# Altium footprint library WL-SMCW.PcbLib: 10 footprints
Each footprint in its own frame and in the unit in brackets; x right, y up, seen from the top. Pads: shape width x height; smd on the part's side, far side on the other; paste and mask are expansions set on the pad; w line width, h text height; cw(c..) or ccw(c..) is an arc to the next point about the centre after c.
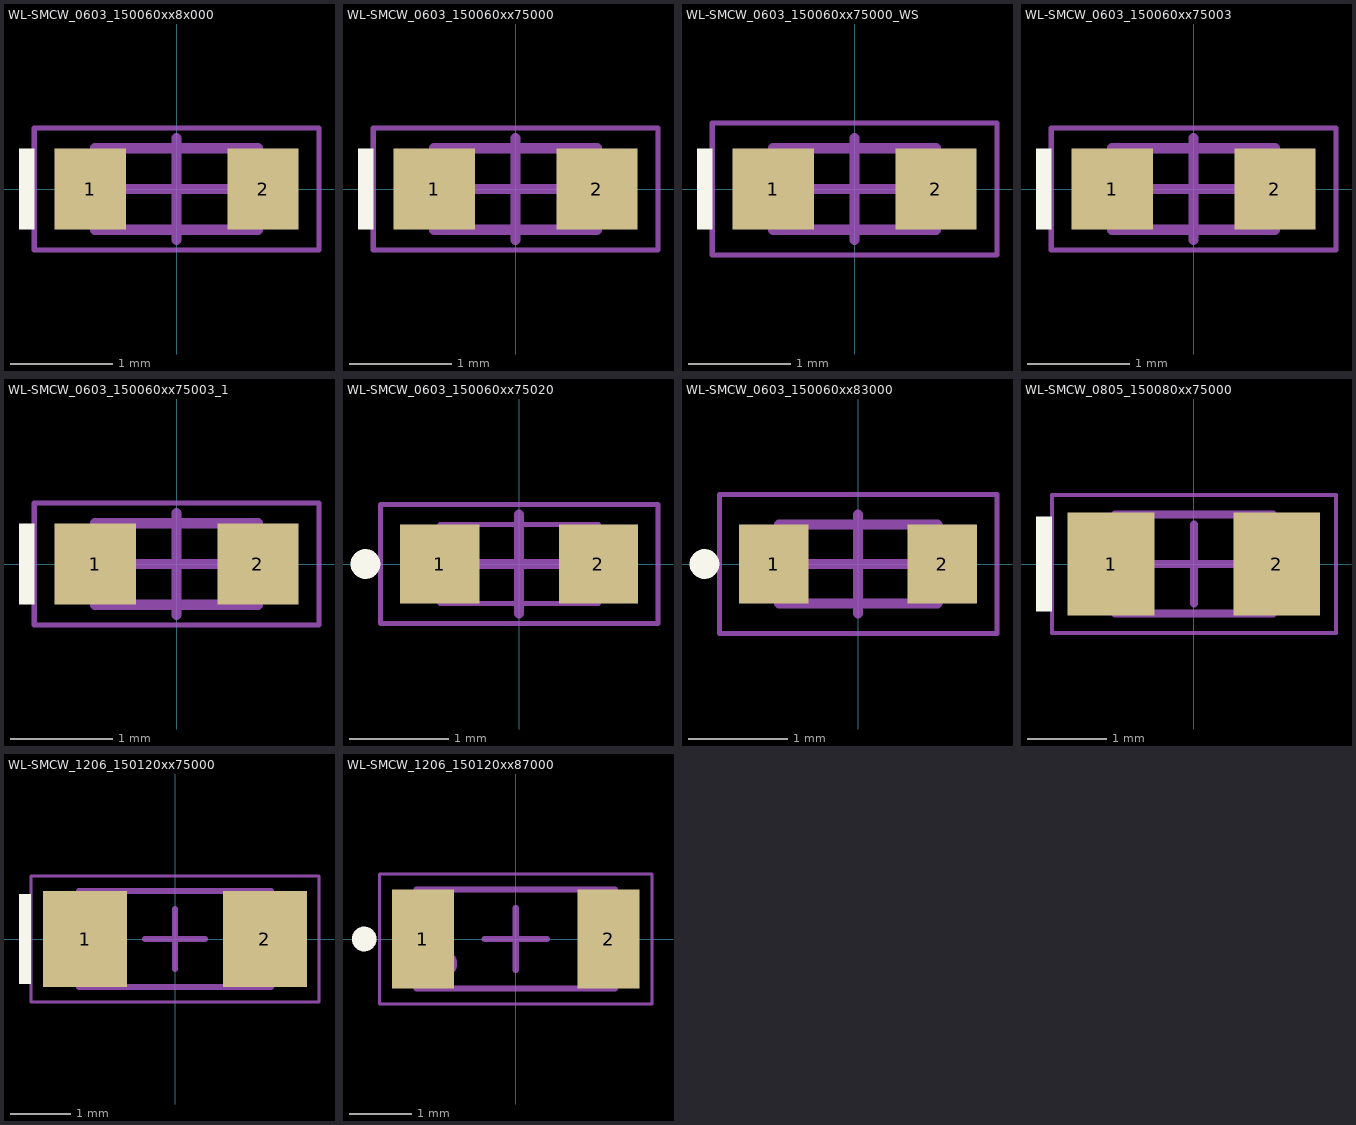
[diagram p0: the footprints below, top view; thin cyan lines are the x and y axes]

## WL-SMCW_0603_150060xx8x000 [mm] "SMD Mono-color Chip LED, body 1.6x0.8mm"
height 0.95
pads (2):
  rect 0.7x0.8 smd: 1(-0.85,0) 2(0.85,0)
Top Overlay:
  rectangle: -1.55,-0.4 -1.4,0.4
Top Assembly:
  rectangle: -0.8,-0.4 -0.5,0.4
  lines w0.1: -0.8,-0.4 0.8,-0.4 0.8,0.4 -0.8,0.4 -0.8,-0.4
Top Designator:
  text ".Designator" at -3.647,-0.357 h1
Top Courtyard:
  lines w0.05: -1.4,-0.6 1.4,-0.6 1.4,0.6 -1.4,0.6 -1.4,-0.6
Top Component Center:
  lines w0.1: -0.5,0 0.5,0 ; 0,-0.5 0,0.5
3D body "150060xx86000.stp": height 0.95, standoff 0, extent -0.8,-0.4 0.8,0.4

## WL-SMCW_0603_150060xx75000 [mm] "SMD Mono-color Chip LED, body 1.60 x 0.80 mm"
height 0.7
pads (2):
  rect 0.8x0.8 smd: 1(-0.8,0) 2(0.8,0)
Top Overlay:
  rectangle: -1.55,-0.4 -1.4,0.4
Top Assembly:
  rectangle: -0.8,-0.4 -0.5,0.4
  lines w0.1: -0.8,-0.4 0.8,-0.4 0.8,0.4 -0.8,0.4 -0.8,-0.4
Top Designator:
  text ".Designator" at -3.647,-0.357 h1
Top Courtyard:
  lines w0.05: -1.4,-0.6 1.4,-0.6 1.4,0.6 -1.4,0.6 -1.4,-0.6
Top Component Center:
  lines w0.1: -0.5,0 0.5,0 ; 0,-0.5 0,0.5
3D body "150060xxx.stp": height 0.7, standoff 0, extent -0.8,-0.4 0.8,0.4

## WL-SMCW_0603_150060xx75000_WS [mm] "SMD Mono-color Chip LED, body 1.60 x 0.80 mm"
height 0.45
pads (2):
  rect 0.8x0.8 smd: 1(-0.8,0) 2(0.8,0)
Top Overlay:
  rectangle: -1.55,-0.4 -1.4,0.4
Top Assembly:
  rectangle: -0.8,-0.4 -0.5,0.4
  lines w0.1: -0.8,-0.4 -0.8,0.4 0.8,0.4 0.8,-0.4 -0.8,-0.4
Top Designator:
  text ".Designator" at -3.647,-0.357 h1
Top Courtyard:
  lines w0.05: -1.4,-0.65 -1.4,0.65 1.4,0.65 1.4,-0.65 -1.4,-0.65
Top Component Center:
  lines w0.1: -0.5,0 0.5,0 ; 0,-0.5 0,0.5
3D body "150060WS75000.stp": height 0.45, standoff 0, extent -0.8,-0.4 0.8,0.4

## WL-SMCW_0603_150060xx75003 [mm] "SMD Mono-color Chip LED, body 1.6x0.8mm"
height 0.7
pads (2):
  rect 0.8x0.8 smd: 1(-0.8,0) 2(0.8,0)
Top Overlay:
  rectangle: -1.55,-0.4 -1.4,0.4
Top Assembly:
  rectangle: -0.8,-0.4 -0.5,0.4
  lines w0.1: -0.8,-0.4 -0.8,0.4 0.8,0.4 0.8,-0.4 -0.8,-0.4
Top Designator:
  text ".Designator" at -3.647,-0.357 h1
Top Courtyard:
  lines w0.05: -1.4,-0.6 -1.4,0.6 1.4,0.6 1.4,-0.6 -1.4,-0.6
Top Component Center:
  lines w0.1: -0.5,0 0.5,0 ; 0,-0.5 0,0.5
3D body "150060xxx.stp": height 0.7, standoff 0, extent -0.8,-0.4 0.8,0.4

## WL-SMCW_0603_150060xx75003_1 [mm] "SMD Mono-color Chip LED, body 1.6x0.8mm"
height 0.7
pads (2):
  rect 0.8x0.8 smd: 1(-0.8,0) 2(0.8,0)
Top Overlay:
  rectangle: -1.55,-0.4 -1.4,0.4
Top Assembly:
  rectangle: -0.8,-0.4 -0.5,0.4
  lines w0.1: -0.8,-0.4 -0.8,0.4 0.8,0.4 0.8,-0.4 -0.8,-0.4
Top Designator:
  text ".Designator" at -3.647,-0.357 h1
Top Courtyard:
  lines w0.05: -1.4,-0.6 -1.4,0.6 1.4,0.6 1.4,-0.6 -1.4,-0.6
Top Component Center:
  lines w0.1: -0.5,0 0.5,0 ; 0,-0.5 0,0.5
3D body "150060xxx.stp": height 0.7, standoff 0, extent -0.8,-0.4 0.8,0.4

## WL-SMCW_0603_150060xx75020 [mm] "SMD Mono-color Chip LED, body 1.6x0.8mm"
height 0.25
pads (2):
  rect 0.8x0.8 smd: 1(-0.8,0) 2(0.8,0)
Top Overlay:
  circle w0.15: c-1.55,0 r0.075
Top Assembly:
  circle w0.05: c-0.6,-0.2 r0.1
  lines w0.05: -0.8,-0.4 -0.8,0.4 0.8,0.4 0.8,-0.4 -0.8,-0.4
Top Designator:
  text ".Designator" at -3.647,-0.357 h1
Top Courtyard:
  lines w0.05: -1.4,-0.6 -1.4,0.6 1.4,0.6 1.4,-0.6 -1.4,-0.6
Top Component Center:
  lines w0.1: -0.5,0 0.5,0 ; 0,-0.5 0,0.5
3D body "150060xx75020.stp": height 0.25, standoff 0, extent -0.8,-0.4 0.8,0.4

## WL-SMCW_0603_150060xx83000 [mm] "LED, SMT, 2-leads, body 1.60 x 0.80 mm"
height 0.95
pads (2):
  rect 0.7x0.8 smd: 1(-0.85,0) 2(0.85,0)
Top Overlay:
  circle w0.15: c-1.55,0 r0.075
Top Assembly:
  lines w0.1: -0.8,-0.4 0.8,-0.4 0.8,0.4 -0.8,0.4 -0.8,-0.4
Top Designator:
  text ".Designator" at -3.647,-0.357 h1
Top Courtyard:
  lines w0.05: -1.4,-0.7 1.4,-0.7 1.4,0.7 -1.4,0.7 -1.4,-0.7
Top Component Center:
  lines w0.1: -0.5,0 0.5,0 ; 0,-0.5 0,0.5
3D body "150060xx83000.stp": height 0.95, standoff 0, extent -0.8,-0.4 0.8,0.4

## WL-SMCW_0805_150080xx75000 [mm] "SMD Mono-color Chip LED, body 2.0x1.25mm"
height 0.7
pads (2):
  rect 1.1x1.3 smd: 1(-1.05,0) 2(1.05,0)
Top Overlay:
  rectangle: -2,-0.6 -1.8,0.6
Top Assembly:
  rectangle: -1,-0.625 -0.7,0.625
  lines w0.1: -1,-0.625 1,-0.625 1,0.625 -1,0.625 -1,-0.625
Top Designator:
  text ".Designator" at -3.647,-0.357 h1
Top Courtyard:
  lines w0.05: -1.8,-0.875 1.8,-0.875 1.8,0.875 -1.8,0.875 -1.8,-0.875
Top Component Center:
  lines w0.1: -0.5,0 0.5,0 ; 0,-0.5 0,0.5
3D body "150080xxS75000.stp": height 0.7, standoff 0, extent -1,-0.625 1,0.625

## WL-SMCW_1206_150120xx75000 [mm] "SMD Mono-color Chip LED, body 3.2x1.6mm"
height 0.68
pads (2):
  rect 1.4x1.6 smd: 1(-1.5,0) 2(1.5,0)
Top Overlay:
  rectangle: -2.6,-0.75 -2.4,0.75
Top Assembly:
  rectangle: -1.6,-0.8 -1.2,0.8
  lines w0.1: -1.6,-0.8 1.6,-0.8 1.6,0.8 -1.6,0.8 -1.6,-0.8
Top Designator:
  text ".Designator" at -3.647,-0.357 h1
Top Courtyard:
  lines w0.05: -2.4,-1.05 -2.4,1.05 2.4,1.05 2.4,-1.05 -2.4,-1.05
Top Component Center:
  lines w0.1: -0.5,0 0.5,0 ; 0,-0.5 0,0.5
3D body "150120xS75000.stp": height 0.68, standoff 0, extent -1.6,-0.8 1.6,0.8

## WL-SMCW_1206_150120xx87000 [mm] "LED, SMT, 2-leads, body 3.20x1.60mm"
height 1.1
pads (2):
  rect 1x1.6 smd: 1(-1.5,0) 2(1.5,0)
Top Overlay:
  circle w0.2: c-2.45,0 r0.1
Top Assembly:
  circle w0.1: c-1.2,-0.4 r0.2
  lines w0.1: -1.6,-0.8 -1.6,0.8 1.6,0.8 1.6,-0.8 -1.6,-0.8
Top Designator:
  text ".Designator" at -3.647,-0.357 h1
Top Courtyard:
  lines w0.05: -2.2,-1.05 -2.2,1.05 2.2,1.05 2.2,-1.05 -2.2,-1.05
Top Component Center:
  lines w0.1: -0.5,0 0.5,0 ; 0,-0.5 0,0.5
3D body "150120xx87000.stp": height 1.1, standoff 0, extent -1.6,-0.8 1.6,0.8